# EAGLE library part S10B-XASK-1 (library jst-xa)
Wire-to-Board 2.5mm pitch top mount connector Source: http://www.jst-mfg.com/product/pdf/jpn/XA1.pdf http://www.jst-mfg.com/product/detail.php?series=272
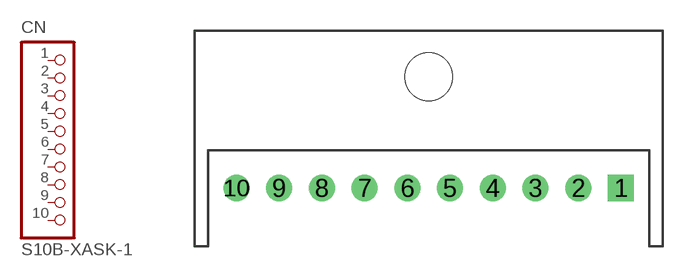
[diagram p16: symbol with the pads of S10B-XASK-1; footprint S10B-XASK-1]

Designator prefix CN

## S10B-XASK-1  [S10B-XASK-1]
1  1  pas
2  2  pas
3  3  pas
4  4  pas
5  5  pas
6  6  pas
7  7  pas
8  8  pas
9  9  pas
10  10  pas

## Footprint S10B-XASK-1 (pad centres in mm)
drill 1.016 square: 1 11.25,0
drill 1.016: 2 8.75,0; 3 6.25,0; 4 3.75,0; 5 1.25,0; 6 -1.25,0; 7 -3.75,0; 8 -6.25,0; 9 -8.75,0; 10 -11.25,0
hole 2.8 at 0,6.5